# Altium schematic symbol library Schlib.SchLib: 16 symbols
Pins are listed as number, name and electrical type; pins without a type are passive.

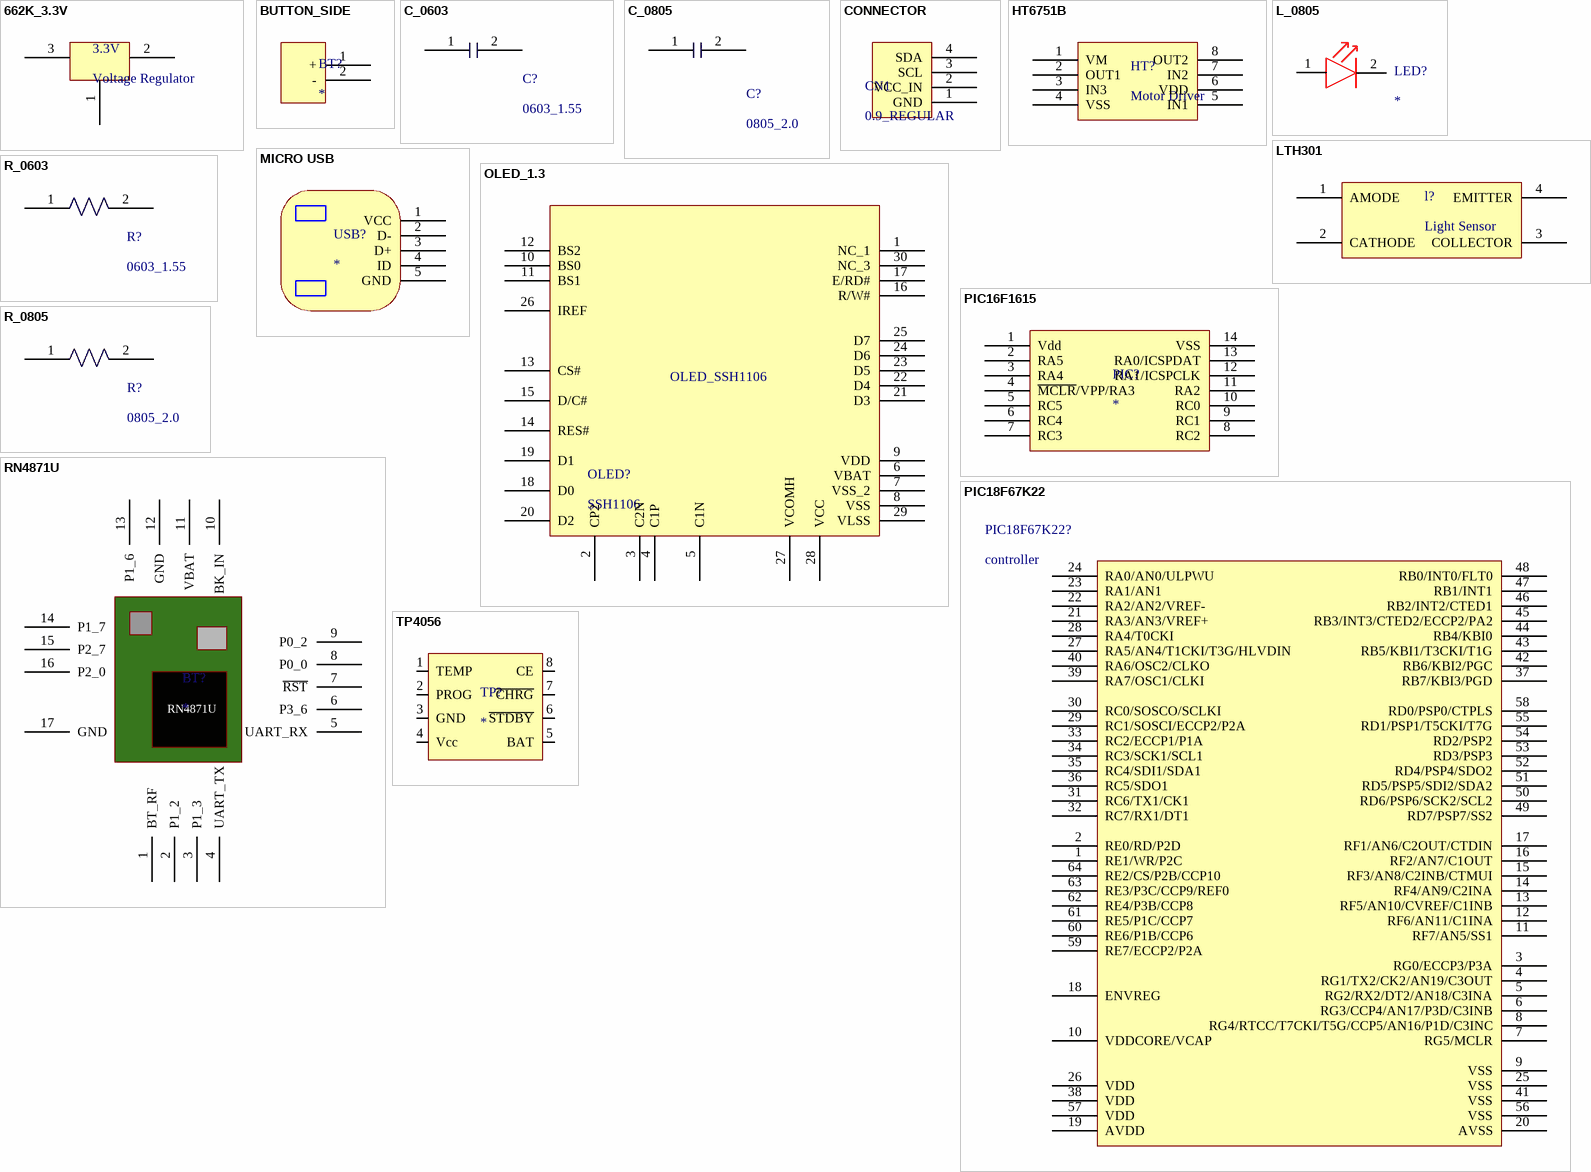
[diagram p0: symbols 662K_3.3V to TP4056]

## 662K_3.3V
designator 3.3V, comment Voltage Regulator
footprint 662K_3.3V
pins: 1, 2, 3

## BUTTON_SIDE
designator BT?
footprint BUTTON_SIDE
pins: 1 +, 2 -

## C_0603
designator C?, comment 0603_1.55
footprint C_0603
pins: 1, 2

## C_0805
designator C?, comment 0805_2.0
footprint C_0805
pins: 1, 2

## CONNECTOR
designator CN1, comment 0.9_REGULAR
footprint CONNECTOR
pins: 1 GND, 2 VCC_IN, 3 SCL, 4 SDA

## HT6751B
designator HT?, comment Motor Driver
footprint HT6751B
pins: 1 VM, 2 OUT1, 3 IN3, 4 VSS, 5 IN1, 6 VDD, 7 IN2, 8 OUT2

## L_0805
designator LED?
footprint L_0805
pins: 1, 2

## LTH301
designator l?, comment Light Sensor
footprint LTH301
pins: 1 AMODE, 2 CATHODE, 3 COLLECTOR, 4 EMITTER

## MICRO USB
designator USB?
footprint MICRO USB
pins: 1 VCC, 2 D-, 3 D+, 4 ID, 5 GND

## OLED_1.3
designator OLED?, comment SSH1106
footprint OLED_1.3
pins: 1 NC_1, 2 CP2, 3 C2N, 4 C1P, 5 C1N, 6 VBAT, 7 VSS_2, 8 VSS, 9 VDD, 10 BS0, 11 BS1, 12 BS2, 13 CS#, 14 RES#, 15 D/C#, 16 R/W#, 17 E/RD#, 18 D0, 19 D1, 20 D2, 21 D3, 22 D4, 23 D5, 24 D6, 25 D7, 26 IREF, 27 VCOMH, 28 VCC, 29 VLSS, 30 NC_3
text: OLED_SSH1106

## PIC16F1615
designator PIC?
footprint PIC16F1615
pins: 1 Vdd, 2 RA5, 3 RA4, 4 ~{MCLR}/VPP/RA3, 5 RC5, 6 RC4, 7 RC3, 8 RC2, 9 RC1, 10 RC0, 11 RA2, 12 RA1/ICSPCLK, 13 RA0/ICSPDAT, 14 VSS

## PIC18F67K22
designator PIC18F67K22?, comment controller
pins: 1 RE1/WR/P2C, 2 RE0/RD/P2D, 3 RG0/ECCP3/P3A, 4 RG1/TX2/CK2/AN19/C3OUT, 5 RG2/RX2/DT2/AN18/C3INA, 6 RG3/CCP4/AN17/P3D/C3INB, 7 RG5/MCLR, 8 RG4/RTCC/T7CKI/T5G/CCP5/AN16/P1D/C3INC, 9 VSS, 10 VDDCORE/VCAP, 11 RF7/AN5/SS1, 12 RF6/AN11/C1INA, 13 RF5/AN10/CVREF/C1INB, 14 RF4/AN9/C2INA, 15 RF3/AN8/C2INB/CTMUI, 16 RF2/AN7/C1OUT, 17 RF1/AN6/C2OUT/CTDIN, 18 ENVREG, 19 AVDD, 20 AVSS, 21 RA3/AN3/VREF+, 22 RA2/AN2/VREF-, 23 RA1/AN1, 24 RA0/AN0/ULPWU, 25 VSS, 26 VDD, 27 RA5/AN4/T1CKI/T3G/HLVDIN, 28 RA4/T0CKI, 29 RC1/SOSCI/ECCP2/P2A, 30 RC0/SOSCO/SCLKI, 31 RC6/TX1/CK1, 32 RC7/RX1/DT1, 33 RC2/ECCP1/P1A, 34 RC3/SCK1/SCL1, 35 RC4/SDI1/SDA1, 36 RC5/SDO1, 37 RB7/KBI3/PGD, 38 VDD, 39 RA7/OSC1/CLKI, 40 RA6/OSC2/CLKO, 41 VSS, 42 RB6/KBI2/PGC, 43 RB5/KBI1/T3CKI/T1G, 44 RB4/KBI0, 45 RB3/INT3/CTED2/ECCP2/PA2, 46 RB2/INT2/CTED1, 47 RB1/INT1, 48  RB0/INT0/FLT0, 49 RD7/PSP7/SS2, 50 RD6/PSP6/SCK2/SCL2, 51 RD5/PSP5/SDI2/SDA2, 52 RD4/PSP4/SDO2, 53 RD3/PSP3, 54 RD2/PSP2, 55 RD1/PSP1/T5CKI/T7G, 56 VSS, 57 VDD, 58 RD0/PSP0/CTPLS, 59 RE7/ECCP2/P2A, 60 RE6/P1B/CCP6, 61 RE5/P1C/CCP7, 62 RE4/P3B/CCP8, 63 RE3/P3C/CCP9/REF0, 64 RE2/CS/P2B/CCP10

## R_0603
designator R?, comment 0603_1.55
footprint R_0603
pins: 1, 2

## R_0805
designator R?, comment 0805_2.0
footprint R_0805
pins: 1, 2

## RN4871U
designator BT?
footprint RN4871U
pins: 1 BT_RF, 2 P1_2, 3 P1_3, 4 UART_TX, 5 UART_RX, 6 P3_6, 7 ~{RST}, 8 P0_0, 9 P0_2, 10 BK_IN, 11 VBAT, 12 GND, 13 P1_6, 14 P1_7, 15 P2_7, 16 P2_0, 17 GND

## TP4056
designator TP?
footprint TP4056
pins: 1 TEMP, 2 PROG, 3 GND, 4 Vcc, 5 BAT, 6 ~{STDBY}, 7 ~{CHRG}, 8 CE